# Altium footprint library Button SMD.PcbLib: 1 footprints
Each footprint in its own frame and in the unit in brackets; x right, y up, seen from the top. Pads: shape width x height; smd on the part's side, far side on the other; paste and mask are expansions set on the pad; w line width, h text height; cw(c..) or ccw(c..) is an arc to the next point about the centre after c.
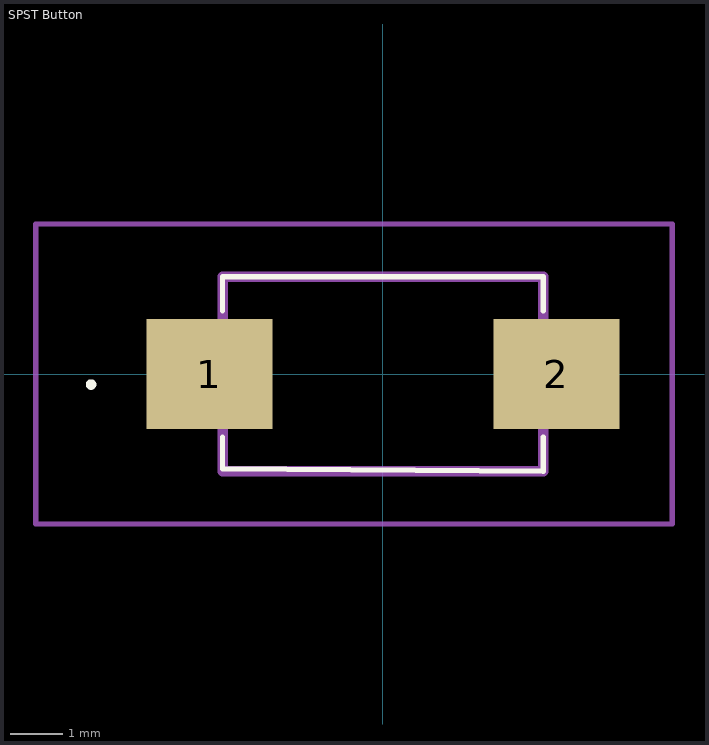
[diagram p0: the footprint, top view; thin cyan lines are the x and y axes]

## SPST Button [mm] "3mmx6mm"
pads (2):
  rect 2.4x2.1 smd: 1(-3.3,0) 2(3.3,0)
Top Overlay:
  lines w0.1: -3.05,-1.2 -3.05,-1.8 3.05,-1.85 3.05,-1.2 ; -3.05,1.2 -3.05,1.85 3.05,1.85 3.05,1.2 ; -5.6,-0.2 cw(c-5.55,-0.2) -5.5,-0.2 cw(c-5.55,-0.2) -5.6,-0.2
Mechanical 13:
  lines w0.1: -6.6,-2.85 -6.6,2.85 5.5,2.85 5.5,-2.85 -6.6,-2.85
  lines w0.2: -3.05,-1.85 -3.05,1.85 3.05,1.85 3.05,-1.85 -3.05,-1.85
3D body "step_temp.STEP": height 2.8, standoff 0, extent -4.29,-1.85 4.29,1.85